# EAGLE library part SN74HC595B (library SN74HC595B)
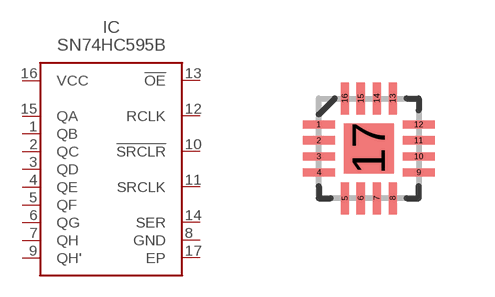
[diagram p0: symbol with the pads of QFN40P250X250X50-17N; footprint QFN40P250X250X50-17N]

Designator prefix IC

## SN74HC595B  [QFN40P250X250X50-17N]
1  QB
2  QC
3  QD
4  QE
5  QF
6  QG
7  QH
8  GND
9  QH'
10  !SRCLR
11  SRCLK
12  RCLK
13  !OE
14  SER
15  QA
16  VCC
17  EP

## Footprint QFN40P250X250X50-17N (pad centres in mm)
smd 0.8 x 0.2: 1 -1.25,0.6; 2 -1.25,0.2; 3 -1.25,-0.2; 4 -1.25,-0.6; 9 1.25,-0.6; 10 1.25,-0.2; 11 1.25,0.2; 12 1.25,0.6
smd 0.2 x 0.8: 5 -0.6,-1.25; 6 -0.2,-1.25; 7 0.2,-1.25; 8 0.6,-1.25; 13 0.6,1.25; 14 0.2,1.25; 15 -0.2,1.25; 16 -0.6,1.25
smd 1.25 x 1.25: 17 0,0